# Altium footprint library TC33X2104E.PcbLib: 1 footprints
Each footprint in its own frame and in the unit in brackets; x right, y up, seen from the top. Pads: shape width x height; smd on the part's side, far side on the other; paste and mask are expansions set on the pad; w line width, h text height; cw(c..) or ccw(c..) is an arc to the next point about the centre after c.
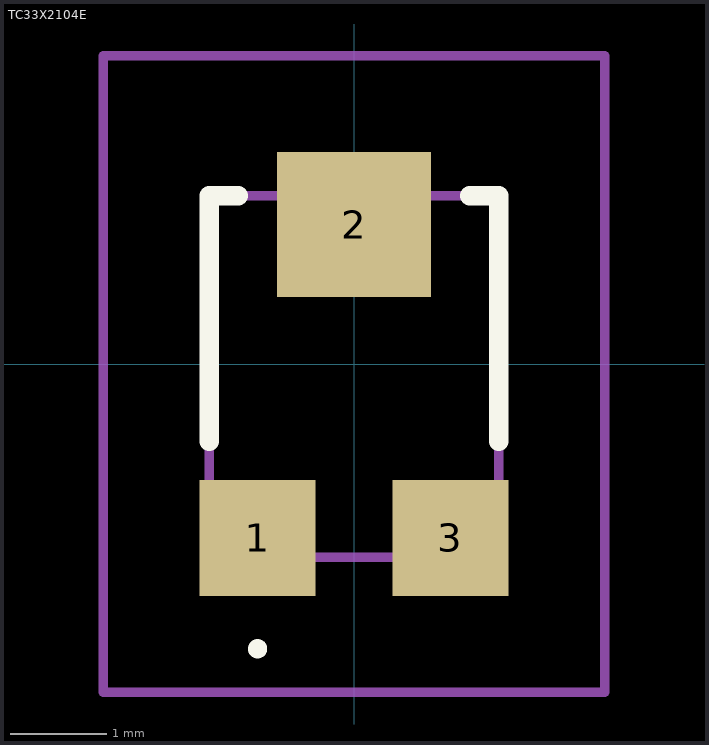
[diagram p0: the footprint, top view; thin cyan lines are the x and y axes]

## TC33X2104E [mm]
pads (3):
  rect 1.2x1.2 smd: 1(-1,-1.8) 3(1,-1.8)
  rect 1.6x1.5 smd: 2(0,1.45)
Top Overlay:
  lines w0.1: -1,-3 -1,-3 ; -1,-3 ccw(c-1,-2.95) -1,-2.9 ; -1,-3 cw(c-1,-2.95) -1,-2.9 ; -1,-2.9 -1,-2.9
  lines w0.2: -1.5,-0.8 -1.5,1.75 -1.2,1.75 ; 1.2,1.75 1.5,1.75 1.5,-0.8
Mechanical 15:
  lines w0.1: -1.5,-2 1.5,-2 1.5,1.75 -1.5,1.75 -1.5,-2
Mechanical 20:
  lines w0.1: -2.6,-3.4 2.6,-3.4 2.6,3.2 -2.6,3.2 -2.6,-3.4